# Altium footprint library 1190297.PcbLib: 1 footprints
Each footprint in its own frame and in the unit in brackets; x right, y up, seen from the top. Pads: shape width x height; smd on the part's side, far side on the other; paste and mask are expansions set on the pad; w line width, h text height; cw(c..) or ccw(c..) is an arc to the next point about the centre after c.
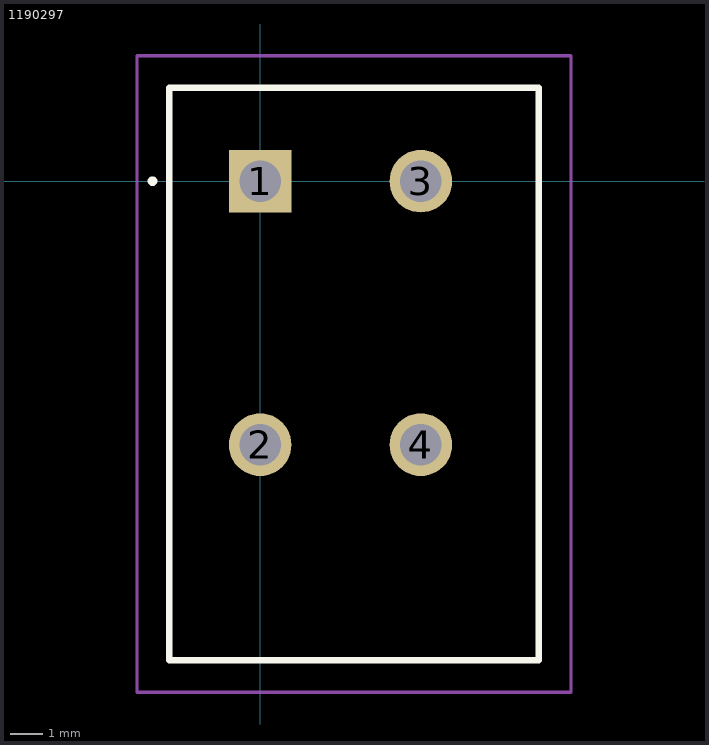
[diagram p0: the footprint, top view; thin cyan lines are the x and y axes]

## 1190297 [mm]
pads (4):
  rect 1.95x1.95 hole 1.3: 1(0,0)
  round 1.95 hole 1.3: 2(0,-8.2) 3(5,0) 4(5,-8.2)
Top Overlay:
  lines w0.2: -3.4,0 -3.4,0 ; -3.4,0 ccw(c-3.35,0) -3.3,0 ; -3.4,0 cw(c-3.35,0) -3.3,0 ; -3.4,0 -3.4,0 ; -3.4,0 ccw(c-3.35,0) -3.3,0 ; -3.3,0 -3.3,0 ; -2.83,-14.9 8.67,-14.9 8.67,2.9 -2.83,2.9 -2.83,-14.9
Mechanical 15:
  lines w0.1: -2.83,-14.9 8.67,-14.9 8.67,2.9 -2.83,2.9 -2.83,-14.9
Mechanical 20:
  lines w0.1: -3.83,-15.9 9.67,-15.9 9.67,3.9 -3.83,3.9 -3.83,-15.9